# EAGLE library part LTR390 (library LTR390)
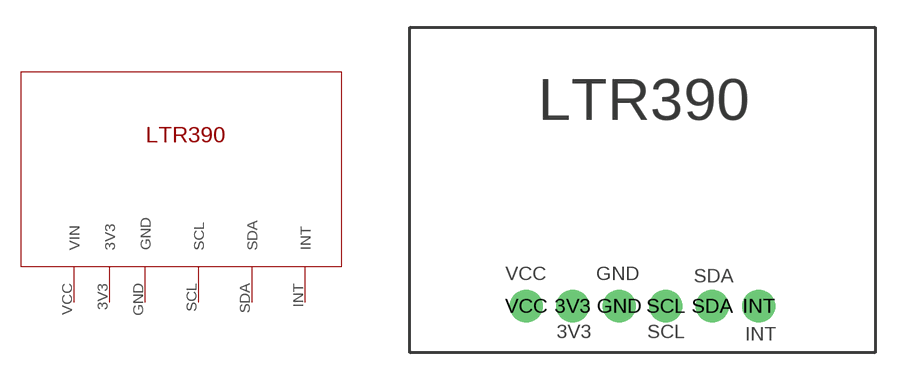
[diagram p0: symbol with the pads of LTR390; footprint LTR390]

Designator prefix -

## LTR390  [LTR390]
3V3  3V3
GND  GND
INT  INT
SCL  SCL
SDA  SDA
VCC  VIN

## Footprint LTR390 (pad centres in mm)
drill 1 pad 1.778: 3V3 8.89,2.54; GND 11.43,2.54; INT 19.05,2.54; SCL 13.97,2.54; SDA 16.51,2.54; VCC 6.35,2.54